# Altium schematic symbol library HDMI_DP.SchLib: 2 symbols
Pins are listed as number, name and electrical type; pins without a type are passive.

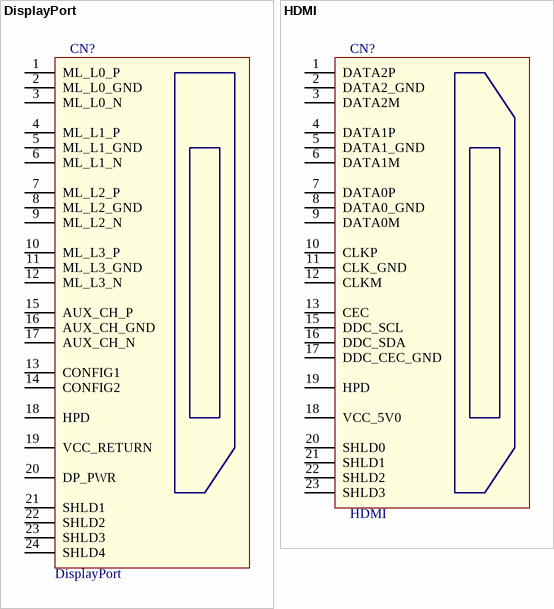
[diagram p0: symbols DisplayPort to HDMI]

## DisplayPort
designator CN?
value: 47272-0001
footprint 2013655-5 (Standard DisplayPort)
pins: 1 ML_L0_P, 2 ML_L0_GND, 3 ML_L0_N, 4 ML_L1_P, 5 ML_L1_GND, 6 ML_L1_N, 7 ML_L2_P, 8 ML_L2_GND, 9 ML_L2_N, 10 ML_L3_P, 11 ML_L3_GND, 12 ML_L3_N, 13 CONFIG1, 14 CONFIG2, 15 AUX_CH_P, 16 AUX_CH_GND, 17 AUX_CH_N, 18 HPD, 19 VCC_RETURN "Return for power", 20 DP_PWR "Power for connector (3.3 V 500 mA)", 21 SHLD1, 22 SHLD2, 23 SHLD3, 24 SHLD4

## HDMI
designator CN?
value: KLS1-285-19-22-N1B
footprint 1747981-1 (Standard HDMI, Type A Series, 1 Port)
pins: 1 DATA2P, 2 DATA2_GND, 3 DATA2M, 4 DATA1P, 5 DATA1_GND, 6 DATA1M, 7 DATA0P, 8 DATA0_GND, 9 DATA0M, 10 CLKP, 11 CLK_GND, 12 CLKM, 13 CEC, 15 DDC_SCL, 16 DDC_SDA, 17 DDC_CEC_GND, 18 VCC_5V0, 19 HPD, 20 SHLD0, 21 SHLD1, 22 SHLD2, 23 SHLD3